# EAGLE library part IC_SOIC_8 (library solderlessPCB v164)
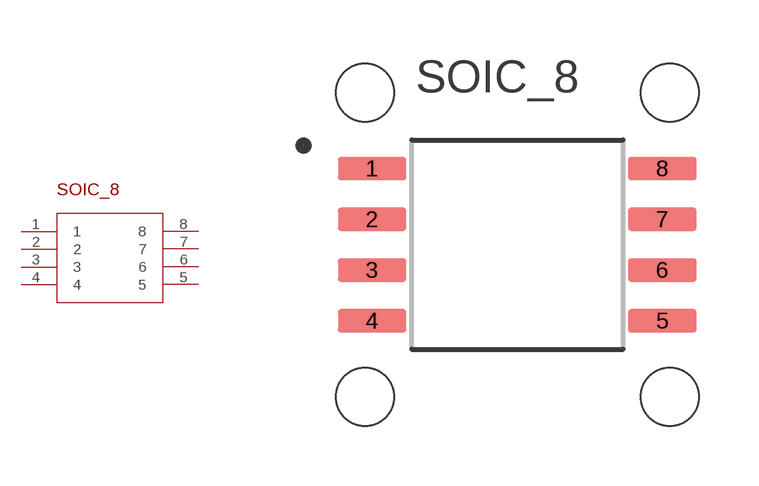
[diagram p11: symbol with the pads of SOIC_8; footprint SOIC_8]

Designator prefix -

## IC_SOIC_8  [SOIC_8]
1  1
2  2
3  3
4  4
5  5
6  6
7  7
8  8

## Footprint SOIC_8 (pad centres in mm)
smd 1.71 x 0.58: 1 -3.63,1.905; 2 -3.63,0.635; 3 -3.63,-0.635; 4 -3.63,-1.905; 5 3.63,-1.905; 6 3.63,-0.635; 7 3.63,0.635; 8 3.63,1.905
hole 1.45 at -3.81,-3.81
hole 1.45 at 3.81,-3.81
hole 1.45 at -3.81,3.81
hole 1.45 at 3.81,3.81